# EAGLE library part TDA7490L (library Audio-Power-amlifier V.2.0)
The TDA7490L is a dual audio class D amplifier assembled in Flexiwatt 25 package; it is specially designed for high efficiency application mainly for TV and Home Stereo sets.
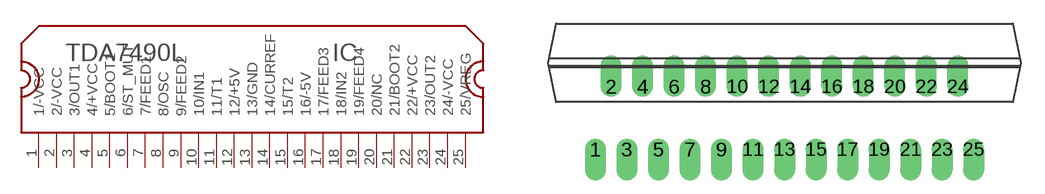
[diagram p127: symbol with the pads of FLEXIWATT25; footprint FLEXIWATT25]

Designator prefix IC

## TDA7490L  [FLEXIWATT25]
1  1/-VCC  pwr
2  2/-VCC  pwr
3  3/OUT1  out
4  4/+VCC  pwr
5  5/BOOT1
6  6/ST_MUT
7  7/FEED1
8  8/OSC
9  9/FEED2
10  10/IN1  in
11  11/T1
12  12/+5V  pwr
13  13/GND  pwr
14  14/CURREF
15  15/T2
16  16/-5V  pwr
17  17/FEED3
18  18/IN2  in
19  19/FEED4
20  20/NC  nc
21  21/BOOT2
22  22/+VCC  pwr
23  23/OUT2  out
24  24/-VCC  pwr
25  25/VREG

## Footprint FLEXIWATT25 (pad centres in mm)
Flexiwatt25 (vertical)
drill 0.813 offset: 1 -12,0; 2 -11,4; 3 -10,0; 4 -9,4; 5 -8,0; 6 -7,4; 7 -6,0; 8 -5,4; 9 -4,0; 10 -3,4; 11 -2,0; 12 -1,4; 13 0,0; 14 1,4; 15 2,0; 16 3,4; 17 4,0; 18 5,4; 19 6,0; 20 7,4; 21 8,0; 22 9,4; 23 10,0; 24 11,4; 25 12,0